# EAGLE library part QUECTELM10 (library quectelm10)
Quectel M10 GSM module by RobotSzoft Kft
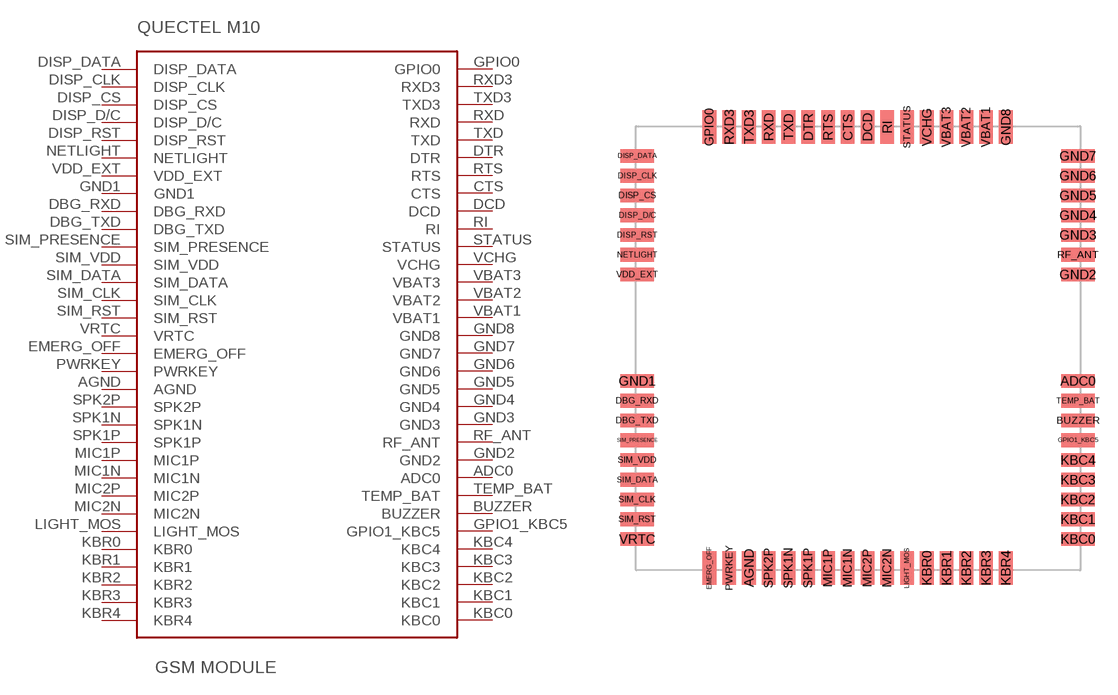
[diagram p0: symbol with the pads of QUECTELM10; footprint QUECTELM10]

Designator prefix -

## QUECTELM10  [QUECTELM10]
ADC0  ADC0  in
AGND  AGND  out
BUZZER  BUZZER  out
CTS  CTS  out
DBG_RXD  DBG_RXD  in
DBG_TXD  DBG_TXD  out
DCD  DCD  out
DISP_CLK  DISP_CLK  out
DISP_CS  DISP_CS  out
DISP_D/C  DISP_D/C  out
DISP_DATA  DISP_DATA
DISP_RST  DISP_RST  out
DTR  DTR  in
EMERG_OFF  EMERG_OFF  in
GND1  GND1  sup
GND2  GND2  sup
GND3  GND3  sup
GND4  GND4  sup
GND5  GND5
GND6  GND6  sup
GND7  GND7  sup
GND8  GND8  sup
GPIO0  GPIO0
GPIO1_KBC5  GPIO1_KBC5
KBC0  KBC0  in
KBC1  KBC1  in
KBC2  KBC2  in
KBC3  KBC3  in
KBC4  KBC4  in
KBR0  KBR0  out
KBR1  KBR1  out
KBR2  KBR2  out
KBR3  KBR3  out
KBR4  KBR4  out
LIGHT_MOS  LIGHT_MOS  out
MIC1N  MIC1N  in
MIC1P  MIC1P  in
MIC2N  MIC2N  in
MIC2P  MIC2P  in
NETLIGHT  NETLIGHT  out
PWRKEY  PWRKEY  in
RF_ANT  RF_ANT
RI  RI  out
RTS  RTS  in
RXD  RXD  in
RXD3  RXD3  in
SIM_CLK  SIM_CLK  out
SIM_DATA  SIM_DATA
SIM_PRESENCE  SIM_PRESENCE  in
SIM_RST  SIM_RST  out
SIM_VDD  SIM_VDD  out
SPK1N  SPK1N  out
SPK1P  SPK1P  out
SPK2P  SPK2P  out
STATUS  STATUS  out
TEMP_BAT  TEMP_BAT  in
TXD  TXD  out
TXD3  TXD3  out
VBAT1  VBAT1  in
VBAT2  VBAT2  in
VBAT3  VBAT3  in
VCHG  VCHG  in
VDD_EXT  VDD_EXT  out
VRTC  VRTC

## Footprint QUECTELM10 (pad centres in mm)
Quectel M10 GSM module by RobotSzoft Kft
smd 2.2 x 0.9: ADC0 15.1,-2.15; BUZZER 15.1,-4.75; DBG_RXD -13.9,-3.45; DBG_TXD -13.9,-4.75; DISP_CLK -13.9,11.35; DISP_CS -13.9,10.05; DISP_D/C -13.9,8.75; DISP_DATA -13.9,12.65; DISP_RST -13.9,7.45; GND1 -13.9,-2.15; GND2 15.1,4.85; GND3 15.1,7.45; GND4 15.1,8.75; GND5 15.1,10.05; GND6 15.1,11.35; GND7 15.1,12.65; GPIO1_KBC5 15.1,-6.05; KBC0 15.1,-12.55; KBC1 15.1,-11.25; KBC2 15.1,-9.95; KBC3 15.1,-8.65; KBC4 15.1,-7.35; NETLIGHT -13.9,6.15; RF_ANT 15.1,6.15; SIM_CLK -13.9,-9.95; SIM_DATA -13.9,-8.65; SIM_PRESENCE -13.9,-6.05; SIM_RST -13.9,-11.25; SIM_VDD -13.9,-7.35; TEMP_BAT 15.1,-3.45; VDD_EXT -13.9,4.85; VRTC -13.9,-12.55
smd 0.9 x 2.2: AGND -6.55,-14.45; CTS -0.05,14.55; DCD 1.25,14.55; DTR -2.65,14.55; EMERG_OFF -9.15,-14.45; GND8 10.35,14.55; GPIO0 -9.15,14.55; KBR0 5.15,-14.45; KBR1 6.45,-14.45; KBR2 7.75,-14.45; KBR3 9.05,-14.45; KBR4 10.35,-14.45; LIGHT_MOS 3.85,-14.45; MIC1N -0.05,-14.45; MIC1P -1.35,-14.45; MIC2N 2.55,-14.45; MIC2P 1.25,-14.45; PWRKEY -7.85,-14.45; RI 2.55,14.55; RTS -1.35,14.55; RXD -5.25,14.55; RXD3 -7.85,14.55; SPK1N -3.95,-14.45; SPK1P -2.65,-14.45; SPK2P -5.25,-14.45; STATUS 3.85,14.55; TXD -3.95,14.55; TXD3 -6.55,14.55; VBAT1 9.05,14.55; VBAT2 7.75,14.55; VBAT3 6.45,14.55; VCHG 5.15,14.55